# Altium footprint library THAIEASYFOOTPRINT_090120_AD2006.PcbLib: 57 footprints (part 4 of 4)
Each footprint in its own frame and in the unit in brackets; x right, y up, seen from the top. Pads: shape width x height; smd on the part's side, far side on the other; paste and mask are expansions set on the pad; w line width, h text height; cw(c..) or ccw(c..) is an arc to the next point about the centre after c.
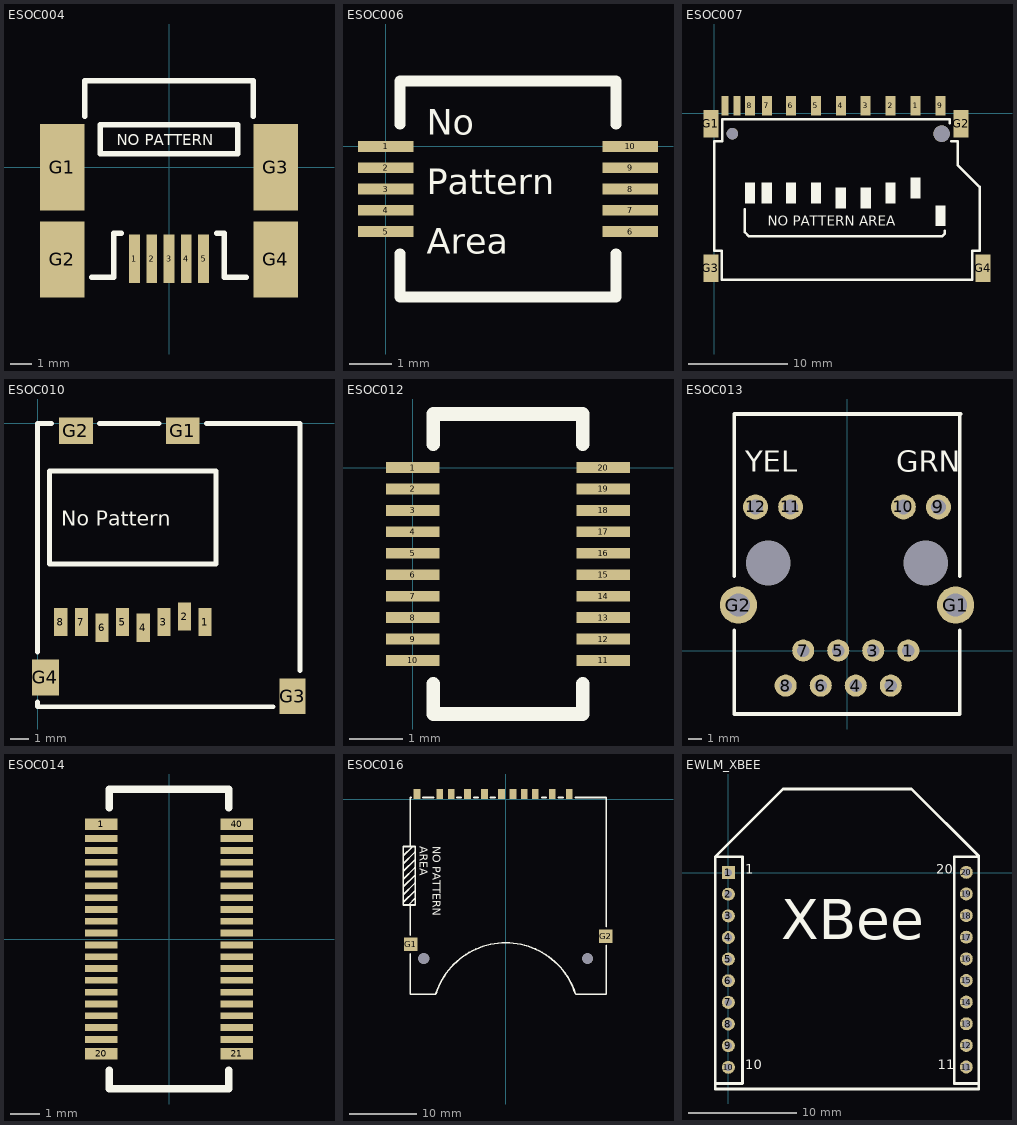
[diagram p3: the footprints below, top view; thin cyan lines are the x and y axes]

## ESOC004 [mm] "54819-0572 -- USB Mini-B Recept"
height 4
pads (9):
  rect 0.5x2.25 smd: 1(-1.6,-4.225) 2(-0.8,-4.225) 3(0,-4.225) 4(0.8,-4.225) 5(1.6,-4.225)
  rect 2.05x4 smd: G1(-4.925,0) G3(4.925,0)
  rect 2.05x3.5 smd: G2(-4.925,-4.25) G4(4.925,-4.25)
Top Overlay:
  lines w0.254: -3.9,2.362 -3.9,4 0,4 3.9,4 3.9,2.362 ; -3.556,-5.08 -2.54,-5.08 -2.54,-3.048 -2.21,-3.048 ; -3.105,1.962 -3.175,1.962 ; 2.21,-3.048 2.54,-3.048 2.54,-5.08 3.556,-5.08 ; -3.175,1.962 3.175,1.962 3.175,0.635 0,0.635 -3.175,0.635 -3.175,1.962
  text "NO PATTERN" at -2.413,1.016 h0.5

## ESOC006 [mm] "DF23C-10DS-0.5V -- SOCKET LCD 6100 NOKIA"
height 1.45
pads (10):
  rect 1.3x0.25 smd: 1(0,0) 2(0,-0.5) 3(0,-1) 4(0,-1.5) 5(0,-2) 6(5.754,-2) 7(5.754,-1.5) 8(5.754,-1) 9(5.754,-0.5) 10(5.754,0)
Top Overlay:
  lines w0.254: 0.337,-2.524 0.337,-3.54 0.845,-3.54 2.877,-3.54 5.036,-3.54 5.417,-3.54 5.417,-2.524 ; 0.337,0.524 0.337,1.54 2.877,1.54 ; 0.845,1.54 2.877,1.54 ; 5.417,0.524 5.417,1.54 4.909,1.54 2.877,1.54
  text "No" at 0.972,0.27 h0.6
  text "Pattern" at 0.972,-1.127 h0.6
  text "Area" at 0.972,-2.524 h0.6

## ESOC007 [mm] "CCM05-5777LFT T50 -- CON SMART CARD SD/MMC 9PIN"
height 2.692
pads (17):
  rect 1x2 smd: 1(20.175,0.75) 2(17.675,0.75) 3(15.175,0.75) 4(12.675,0.75) 5(10.175,0.75) 6(7.675,0.75) 7(5.25,0.75) 8(3.55,0.75) 9(22.675,0.75)
  rect 0.7x2 smd: 10(1.05,0.75) 11(2.25,0.75)
  rect 1.5x2.8 smd: G1(-0.35,-1.05) G2(24.75,-1.05) G3(-0.35,-15.55) G4(26.95,-15.55)
  round 1.15 hole 1.15: ""(1.8,-2.05)
  round 1.65 hole 1.65: ""(22.788,-2.05)
Top Overlay:
  rectangle: 4.742,-9.037 5.758,-6.967
  rectangle: 7.167,-9.037 8.183,-6.967
  rectangle: 9.667,-9.037 10.683,-6.967
  rectangle: 12.167,-9.537 13.183,-7.467
  rectangle: 14.667,-9.537 15.683,-7.467
  rectangle: 17.167,-9.037 18.183,-6.967
  rectangle: 19.667,-8.537 20.683,-6.467
  rectangle: 22.167,-11.337 23.183,-9.267
  rectangle: 3.042,-9.037 4.058,-6.967
  lines w0.254: 3.048,-9.652 3.048,-11.938 3.429,-12.319 22.86,-12.319 23.114,-12.065 23.114,-11.811 ; 23.622,-1.016 23.622,-0.584 0.762,-0.584 0.762,-2.794 0,-2.794 0,-13.818 0.737,-13.818 0.737,-16.7 25.857,-16.7 25.857,-13.818 26.6,-13.818 26.6,-7.4 24.4,-5.2 24.4,-5.13 24.4,-2.81 23.765,-2.81
  text "NO PATTERN AREA" at 5.334,-11.303 h1

## ESOC010 [mm] "SCHA1A0101 -- TRANSFLASH CARD CONNECTOR"
height 1.905
pads (12):
  rect 0.7x1.5 smd: 1(8.94,-10.6) 2(7.84,-10.3) 3(6.74,-10.6) 4(5.64,-10.9) 5(4.54,-10.6) 6(3.44,-10.9) 7(2.34,-10.6) 8(1.24,-10.6)
  rect 1.8x1.4 smd: G1(7.75,-0.4) G2(2.05,-0.4)
  rect 1.4x1.9 smd: G3(13.6,-14.55)
  rect 1.45x1.9 smd: G4(0.425,-13.55)
Top Overlay:
  lines w0.254: 0,-14.859 0,-15.113 12.573,-15.113 ; 0,-12.192 0,0 0.762,0 ; 3.302,0 6.477,0 ; 9.017,0 14,0 14,-13.178 ; 0.635,-7.493 0.635,-2.54 9.525,-2.54 9.525,-7.493 0.635,-7.493
  text "No Pattern" at 1.27,-5.461 h0.8

## ESOC012 [mm] "DF18C-20DP-0.4V -- E700 CAM SOCKET"
height 1.16
pads (20):
  rect 1x0.2 smd: 1(0.003,0) 2(0.003,-0.4) 3(0.003,-0.8) 4(0.003,-1.2) 5(0.003,-1.6) 6(0.003,-2) 7(0.003,-2.4) 8(0.003,-2.8) 9(0.003,-3.2) 10(0.003,-3.6) 11(3.553,-3.6) 12(3.553,-3.2) 13(3.553,-2.8) 14(3.553,-2.4) 15(3.553,-2) 16(3.553,-1.6) 17(3.553,-1.2) 18(3.553,-0.8) 19(3.553,-0.4) 20(3.553,0)
Top Overlay:
  lines w0.254: 0.381,-4.039 0.381,-4.6 3.175,-4.6 3.175,-4.039 ; 0.381,0.432 0.381,1 3.175,1 3.175,0.432

## ESOC013 [mm] "TRJ0011GBNL -- CONN RJ45  W/MAGNETIC AND LEDS"
height 13.45
pads (16):
  round 1.6 hole 0.9: 1(4.445,0) 2(3.175,-2.54) 3(1.905,0) 4(0.635,-2.54) 5(-0.635,0) 6(-1.905,-2.54) 7(-3.175,0) 8(-4.445,-2.54)
  round 1.8 hole 1.1: 9(6.63,10.41) 10(4.09,10.41) 11(-4.09,10.41) 12(-6.63,10.41)
  round 2.7 hole 1.65: G1(7.875,3.3) G2(-7.875,3.3)
  round 1.524 hole 3.25: ""(-5.715,6.35) ""(5.715,6.35)
Top Overlay:
  lines w0.254: -8.19,1.462 -8.19,-4.6 8.19,-4.6 8.19,1.462 ; -8.19,5.396 -8.19,17.15 8.19,17.15 ; 8.19,5.396 8.19,17.15 ; 8.25,17.15 8.19,17.15
  text "GRN" at 3.556,12.954 h1.52
  text "YEL" at -7.366,12.954 h1.52

## ESOC014 [mm] "AXK740145 -- GLCD WITH TOUCH SCREEN SOCKET"
height 1.3
pads (40):
  rect 1.1x0.4 smd: 1(-2.3,3.885) 20(-2.3,-3.885) 21(2.3,-3.885) 40(2.3,3.885)
  rect 1.1x0.23 smd: 2(-2.3,3.4) 3(-2.3,3) 4(-2.3,2.6) 5(-2.3,2.2) 6(-2.3,1.8) 7(-2.3,1.4) 8(-2.3,1) 9(-2.3,0.6) 10(-2.3,0.2) 11(-2.3,-0.2) 12(-2.3,-0.6) 13(-2.3,-1) 14(-2.3,-1.4) 15(-2.3,-1.8) 16(-2.3,-2.2) 17(-2.3,-2.6) 18(-2.3,-3) 19(-2.3,-3.4) 22(2.3,-3.4) 23(2.3,-3) 24(2.3,-2.6) 25(2.3,-2.2) 26(2.3,-1.8) 27(2.3,-1.4) 28(2.3,-1) 29(2.3,-0.6) 30(2.3,-0.2) 31(2.3,0.2) 32(2.3,0.6) 33(2.3,1) 34(2.3,1.4) 35(2.3,1.8) 36(2.3,2.2) 37(2.3,2.6) 38(2.3,3) 39(2.3,3.4)
Top Overlay:
  lines w0.254: -2.032,-4.445 -2.032,-5.08 2.032,-5.08 2.032,-4.445 ; -2.032,4.445 -2.032,5.08 2.032,5.08 2.032,4.445

## ESOC016 [mm] "CYSD570 -- SD/MMC CARD CONNECTOR"
height 2.75
pads (15):
  rect 1x1.5 smd: 1(6.88,0.75) 2(4.38,0.75) 3(1.08,0.75) 4(-0.63,0.75) 5(-3.13,0.75) 6(-5.63,0.75) 7(-8.05,0.75) 8(-9.75,0.75) 9(9.38,0.75) 10(-13.1,0.75) 11(2.73,0.75)
  rect 2x2 smd: G1(-14,-21.45) G2(14.8,-20.25)
  round 1.524 hole 1.65: ""(-12.1,-23.55) ""(12.1,-23.55)
Top Overlay:
  lines w0.254: -15.113,-15.24 -13.399,-13.525 ; -15.113,-14.097 -13.399,-12.383 ; -15.113,-12.954 -13.399,-11.239 ; -15.113,-11.811 -13.399,-10.096 ; -15.113,-10.668 -13.399,-8.954 ; -15.113,-9.525 -13.399,-7.81 ; -15.113,-8.382 -13.716,-6.985 -13.335,-6.985 ; -14.351,-15.621 -13.335,-14.605 ; -14.097,-22.86 -14.097,-28.8 -10.38,-28.8 -10.283,-28.703 cw(c0,-32) 10.283,-28.703 10.38,-28.8 14.859,-28.8 14.859,-21.59 ; -14.097,-20.066 -14.097,-15.621 ; -14.097,-6.985 -14.097,0.254 -13.97,0.254 ; -12.192,0.254 -10.668,0.254 ; -7.239,0.254 -6.604,0.254 ; -4.699,0.254 -4.064,0.254 ; -2.286,0.254 -1.524,0.254 ; 5.334,0.254 5.969,0.254 ; 7.747,0.254 8.509,0.254 ; 10.287,0.254 14.859,0.254 14.859,-18.796 ; -13.335,-6.985 -13.335,-15.621 -15.113,-15.621 -15.113,-6.985 -13.97,-6.985 -13.335,-6.985
  text "NO PATTERN" at -10.795,-6.985 h1.2
  text "AREA" at -12.7,-6.985 h1.2

## EWLM_XBEE [mm] "Xbee/Xbee PRO Module"
pads (20):
  rect 1.2x1.2 hole 0.7: 1(0,0)
  round 1.2 hole 0.7: 2(0,-2) 3(0,-4) 4(0,-6) 5(0,-8) 6(0,-10) 7(0,-12) 8(0,-14) 9(0,-16) 10(0,-18) 11(22,-17.975) 12(22,-15.975) 13(22,-13.975) 14(22,-11.975) 15(22,-9.975) 16(22,-7.975) 17(22,-5.975) 18(22,-3.975) 19(22,-1.975) 20(22,0.025)
Top Overlay:
  lines w0.254: 23.161,-19.499 20.879,-19.499 20.879,1.452 23.161,1.452 ; -1.219,-19.499 -1.219,-20.007 23.161,-20.007 23.161,1.452 ; -1.219,-19.499 1.321,-19.499 1.321,1.456 -1.219,1.456 ; -1.219,-19.499 -1.219,1.196 -1.219,1.452 -1.219,1.456 ; -1.219,1.456 5.051,7.726 16.942,7.726 23.161,1.507 23.161,1.452
  text "XBee" at 4.877,-7.434 h6.35
  text "1" at 1.575,-0.449 h1.52
  text "10" at 1.575,-18.483 h1.52
  text "11" at 19.355,-18.483 h1.52
  text "20" at 19.228,-0.449 h1.52